# Altium schematic symbol library FairchildG.SchLib: 1 symbol
Pins are listed as number, name and electrical type; pins without a type are passive.

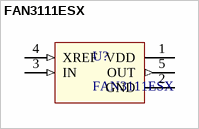
[diagram p0: symbol FAN3111ESX]

## FAN3111ESX
designator U?
footprint SOT23-5AN (SOT23, 5-Leads, Body 2.9x1.6mm, Pitch 0.95mm, Lead Span 2.8mm, IPC Medium Density)
pins: 1 VDD (power), 2 GND (power), 3 IN (in), 4 XREF (in), 5 OUT (out)